# Altium footprint library LCD2004_PCB.PcbLib: 1 footprints
Each footprint in its own frame and in the unit in brackets; x right, y up, seen from the top. Pads: shape width x height; smd on the part's side, far side on the other; paste and mask are expansions set on the pad; w line width, h text height; cw(c..) or ccw(c..) is an arc to the next point about the centre after c.
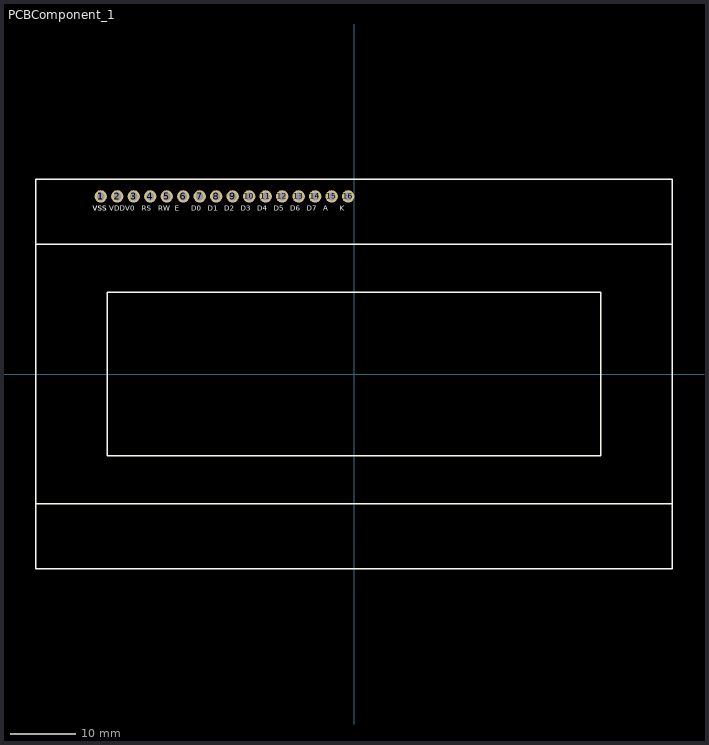
[diagram p0: the footprint, top view; thin cyan lines are the x and y axes]

## PCBComponent_1 [mm]
pads (17):
  round 1.9 hole 1.2: 1(-39,27.35) 1(-39,27.35) 2(-36.46,27.35) 3(-33.92,27.35) 4(-31.38,27.35) 5(-28.84,27.35) 6(-26.3,27.35) 7(-23.76,27.35) 8(-21.22,27.35) 9(-18.68,27.35) 10(-16.14,27.35) 11(-13.6,27.35) 12(-11.06,27.35) 13(-8.52,27.35) 14(-5.98,27.35) 15(-3.44,27.35) 16(-0.9,27.35)
Top Overlay:
  lines w0.2: -49,-30 49,-30 49,30 -49,30 -49,-30 ; -49,-20 49,-20 49,20 -49,20 -49,-20 ; -38,-12.6 38,-12.6 38,12.6 -38,12.6 -38,0 -38,-12.6
  text "D1" at -22.49,25.15 h0.8
  text "RW" at -30.11,25.15 h0.8
  text "D4" at -14.87,25.15 h0.8
  text "V0" at -35.19,25.15 h0.8
  text "D7" at -7.25,25.15 h0.8
  text "VDD" at -37.73,25.15 h0.8
  text "RS" at -32.65,25.15 h0.8
  text "D0" at -25.03,25.15 h0.8
  text "D6" at -9.79,25.15 h0.8
  text "VSS" at -40.27,25.15 h0.8
  text "D3" at -17.41,25.15 h0.8
  text "K" at -2.17,25.15 h0.8
  text "E" at -27.57,25.15 h0.8
  text "VSS" at -40.27,25.15 h0.8
  text "D2" at -19.95,25.15 h0.8
  text "A" at -4.71,25.15 h0.8
  text "D5" at -12.33,25.15 h0.8
3D body "LCD Display 2004.stp": height 11.74, standoff -1.91, extent -49.069,-29.944 49,30